# EAGLE library part NC7W*240 (library fairchild-tinylogic)
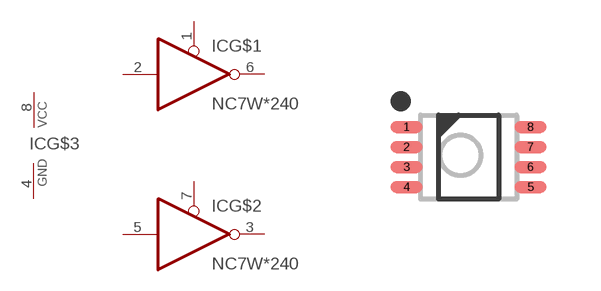
[diagram p19: symbol with the pads of TSSOP50P310X90-8N_MAB08A_US8; footprint TSSOP50P310X90-8N_MAB08A_US8]

Designator prefix IC; gates G$1=INVERTER_/TRISTATE G$2=INVERTER_/TRISTATE G$3=PWRN

## NC7WP240K8X, NC7WZ240K8X  [TSSOP50P310X90-8N_MAB08A_US8]
1  G$1:/OE  in
2  G$1:I  in
3  G$2:O  hiz
4  G$3:GND  pwr
5  G$2:I  in
6  G$1:O  hiz
7  G$2:/OE  in
8  G$3:VCC  pwr

## Footprint TSSOP50P310X90-8N_MAB08A_US8 (pad centres in mm)
smd 0.8 x 0.3: 1 -1.55,0.75; 2 -1.55,0.25; 3 -1.55,-0.25; 4 -1.55,-0.75; 5 1.55,-0.75; 6 1.55,-0.25; 7 1.55,0.25; 8 1.55,0.75